# Altium footprint library Tant_Capacitor_Footprints.PcbLib: 1 footprints
Each footprint in its own frame and in the unit in brackets; x right, y up, seen from the top. Pads: shape width x height; smd on the part's side, far side on the other; paste and mask are expansions set on the pad; w line width, h text height; cw(c..) or ccw(c..) is an arc to the next point about the centre after c.
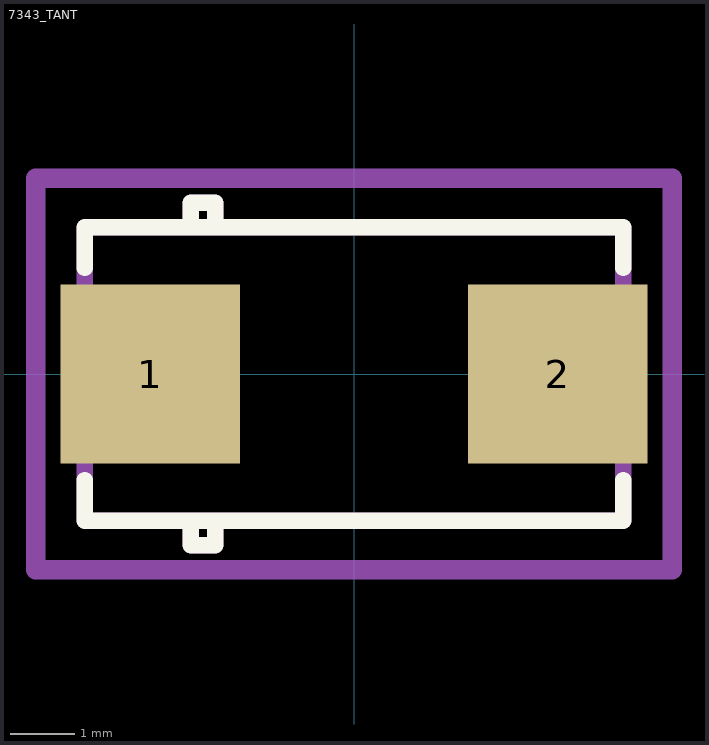
[diagram p0: the footprint, top view; thin cyan lines are the x and y axes]

## 7343_TANT [mil]
pads (2):
  rect 110x110 smd: 1(-125,0) 2(125,0)
Top Overlay:
  lines w10: -165,-65 -165,-90 165,-90 165,-65 ; -165,65 -165,90 165,90 165,65 ; -100,-90 -100,-105 ; -85,-90 -85,-105 ; -100,-105 -85,-105 ; -100,-105 -85,-105 ; -100,90 -100,105 -85,105 -85,90 -100,90
Top Assembly:
  lines w10: -165,-90 165,-90 165,90 -165,90 -165,-90 ; -100,-105 -100,-90 -85,-90 -85,-105 -100,-105 ; -100,90 -100,105 -85,105 -85,90 -100,90
Mechanical 16:
  lines w12: -195,-120 -195,120 195,120 195,-120 -195,-120
3D body "CP_EIA-7343-15_Kemet-W.step": height 59.06, standoff 0, extent -143.7,-84.65 143.7,84.65